# Altium footprint library 5019530207.PcbLib: 1 footprints
Each footprint in its own frame and in the unit in brackets; x right, y up, seen from the top. Pads: shape width x height; smd on the part's side, far side on the other; paste and mask are expansions set on the pad; w line width, h text height; cw(c..) or ccw(c..) is an arc to the next point about the centre after c.
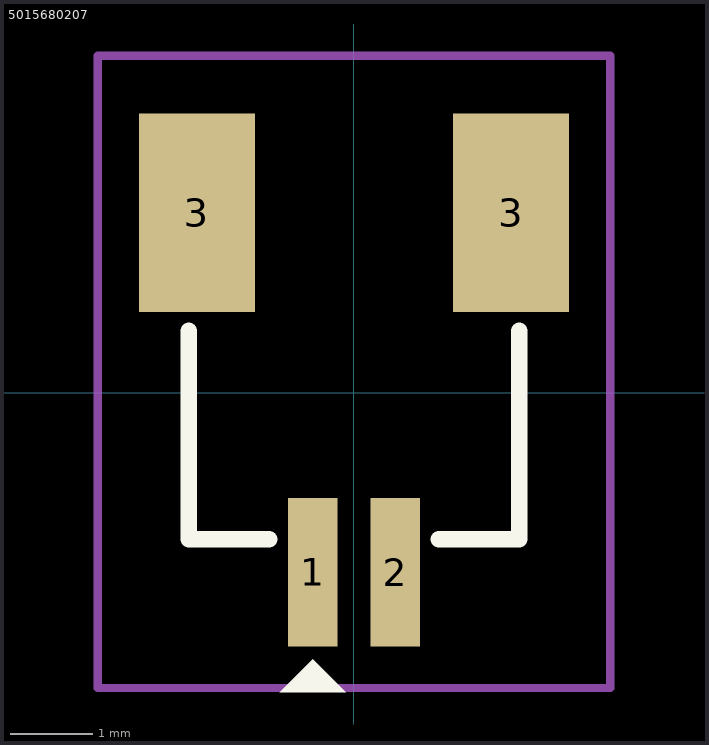
[diagram p0: the footprint, top view; thin cyan lines are the x and y axes]

## 5015680207 [mm]
pads (4):
  rect 0.6x1.8 smd: 1(-0.5,-2.175) 2(0.5,-2.175)
  rect 1.4x2.4 smd: 3(-1.9,2.175) 3(1.9,2.175)
Top Overlay:
  region: -0.1,-3.625 -0.9,-3.625 -0.5,-3.225
  lines w0.2: -2,0.75 -2,-1.775 -1.025,-1.775 ; 1.025,-1.775 2,-1.775 2,0.75
Top Courtyard:
  lines w0.1: -3.1,0.975 -3.1,-3.575 ; -3.1,-3.575 -3.1,4.075 3.1,4.075 3.1,-3.575 -3.1,-3.575
3D body "5015680207.stp": height 2.94, standoff -0.26, extent -2,-2.325 2,3.575